# EAGLE library part UPG2179TB (library renesas)
RF-SWITCH
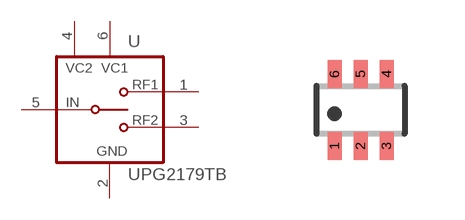
[diagram p0: symbol with the pads of SC70-6; footprint SC70-6]

Designator prefix U; gates G$1=RF-SW-CTRL G$2=RF-SW-SPDT

## UPG2179TB  [SC70-6]
1  G$2:RF1
2  G$1:GND  pwr
3  G$2:RF2
4  G$1:V2  in
5  G$2:IN
6  G$1:V1  in

## Footprint SC70-6 (pad centres in mm)
SC-70 Package
smd 0.35 x 0.7: 1 -0.65,-0.9; 2 0,-0.9; 3 0.65,-0.9; 4 0.65,0.9; 5 0,0.9; 6 -0.65,0.9